# Altium schematic symbol library Seeed.SchLib: 2 symbols
Pins are listed as number, name and electrical type; pins without a type are passive.

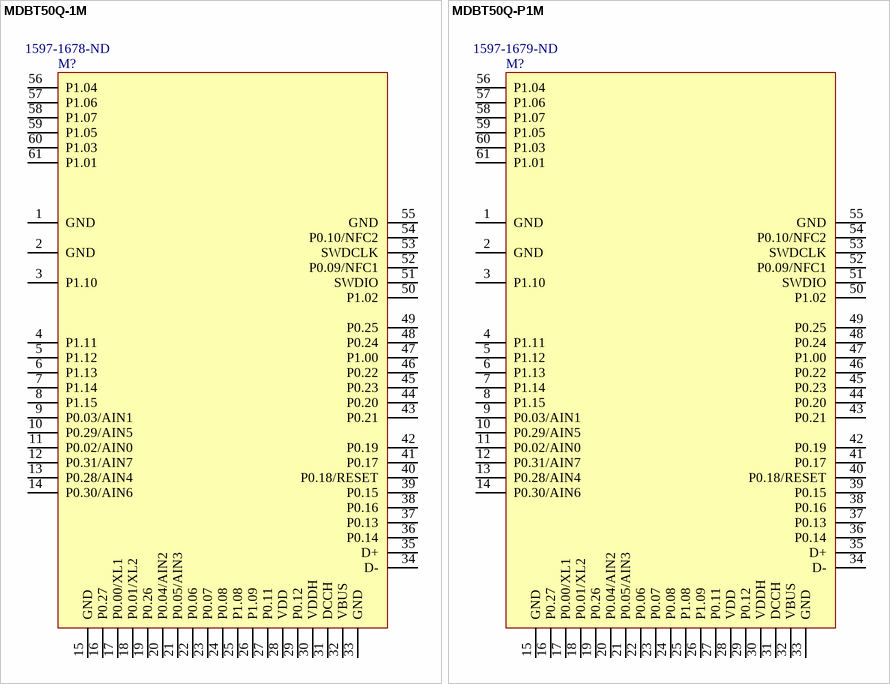
[diagram p0: symbols MDBT50Q-1M to MDBT50Q-P1M]

## MDBT50Q-1M
designator M?, comment Supplier Part Number 1: 1597-1678-ND  (hidden comment: MDBT50Q-1M NRF52840 BASED BLE MO)
802.15.4, General ISM < 1GHz Bluetooth v5.0 Transceiver Module 2.36GHz ~ 2.5GHz Integrated, Chip Surface Mount; Supplier 1: Digi-Key; MPN: MDBT50Q-1M
footprint PCB_MDBT50Q-1M
footprint PCB_MDBT50Q-1M
pins: 1 GND, 2 GND, 3 P1.10, 4 P1.11, 5 P1.12, 6 P1.13, 7 P1.14, 8 P1.15, 9 P0.03/AIN1, 10 P0.29/AIN5, 11 P0.02/AIN0, 12 P0.31/AIN7, 13 P0.28/AIN4, 14 P0.30/AIN6, 15 GND, 16 P0.27, 17 P0.00/XL1, 18 P0.01/XL2, 19 P0.26, 20 P0.04/AIN2, 21 P0.05/AIN3, 22 P0.06, 23 P0.07, 24 P0.08, 25 P1.08, 26 P1.09, 27 P0.11, 28 VDD, 29 P0.12, 30 VDDH, 31 DCCH, 32 VBUS, 33 GND, 34 D-, 35 D+, 36 P0.14, 37 P0.13, 38 P0.16, 39 P0.15, 40 P0.18/RESET, 41 P0.17, 42 P0.19, 43 P0.21, 44 P0.20, 45 P0.23, 46 P0.22, 47 P1.00, 48 P0.24, 49 P0.25, 50 P1.02, 51 SWDIO, 52 P0.09/NFC1, 53 SWDCLK, 54 P0.10/NFC2, 55 GND, 56 P1.04, 57 P1.06, 58 P1.07, 59 P1.05, 60 P1.03, 61 P1.01

## MDBT50Q-P1M
designator M?, comment Supplier Part Number 1: 1597-1679-ND  (hidden comment: MDBT50Q-P1M NRF52840 BASED BLE M)
802.15.4, General ISM < 1GHz Bluetooth v5.0 Transceiver Module 2.36GHz ~ 2.5GHz Integrated, Trace Surface Mount; MPN: MDBT50Q-P1M; Supplier 1: Digi-Key
footprint PCB_MDBT50Q-P1M
pins: 1 GND, 2 GND, 3 P1.10, 4 P1.11, 5 P1.12, 6 P1.13, 7 P1.14, 8 P1.15, 9 P0.03/AIN1, 10 P0.29/AIN5, 11 P0.02/AIN0, 12 P0.31/AIN7, 13 P0.28/AIN4, 14 P0.30/AIN6, 15 GND, 16 P0.27, 17 P0.00/XL1, 18 P0.01/XL2, 19 P0.26, 20 P0.04/AIN2, 21 P0.05/AIN3, 22 P0.06, 23 P0.07, 24 P0.08, 25 P1.08, 26 P1.09, 27 P0.11, 28 VDD, 29 P0.12, 30 VDDH, 31 DCCH, 32 VBUS, 33 GND, 34 D-, 35 D+, 36 P0.14, 37 P0.13, 38 P0.16, 39 P0.15, 40 P0.18/RESET, 41 P0.17, 42 P0.19, 43 P0.21, 44 P0.20, 45 P0.23, 46 P0.22, 47 P1.00, 48 P0.24, 49 P0.25, 50 P1.02, 51 SWDIO, 52 P0.09/NFC1, 53 SWDCLK, 54 P0.10/NFC2, 55 GND, 56 P1.04, 57 P1.06, 58 P1.07, 59 P1.05, 60 P1.03, 61 P1.01